# Altium schematic symbol library Conn_3pin.SchLib: 1 symbol
Pins are listed as number, name and electrical type; pins without a type are passive.

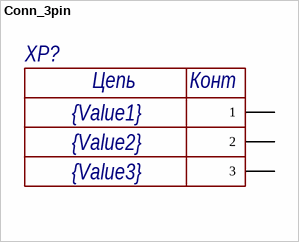
[diagram p0: symbol Conn_3pin]

## Conn_3pin
designator XP?  Value3: {Value3}  Value2: {Value2}  Value1: {Value1}
pins: 1, 2, 3
text: Цепь; Конт